# Altium footprint library PcbLib.PcbLib: 5 footprints
Each footprint in its own frame and in the unit in brackets; x right, y up, seen from the top. Pads: shape width x height; smd on the part's side, far side on the other; paste and mask are expansions set on the pad; w line width, h text height; cw(c..) or ccw(c..) is an arc to the next point about the centre after c.
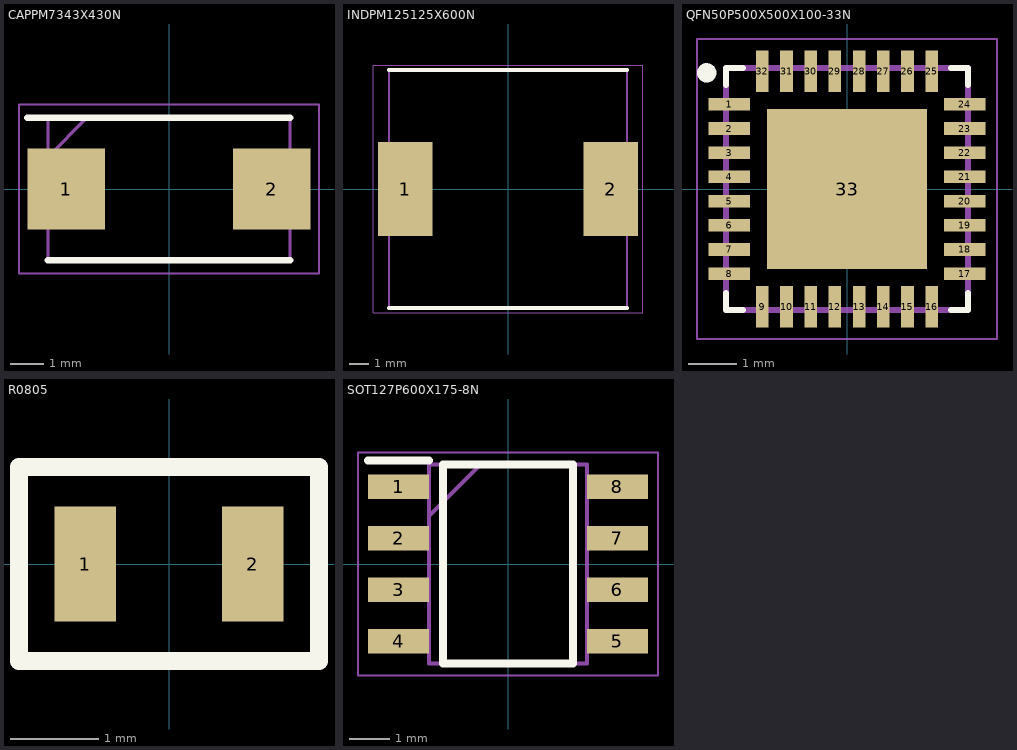
[diagram p0: the footprints below, top view; thin cyan lines are the x and y axes]

## CAPPM7343X430N [mm]
pads (2):
  rect 2.35x2.45 smd: 1(-3.1,0) 2(3.1,0)
Top Overlay:
  lines w0.2: -4.275,2.15 3.65,2.15 ; -3.65,-2.15 3.65,-2.15
Mechanical 13:
  lines w0.1: -3.65,0.975 -2.475,2.15 ; -3.65,-2.15 3.65,-2.15 3.65,2.15 -3.65,2.15 -3.65,-2.15
Mechanical 15:
  lines w0.05: -4.525,-2.55 4.525,-2.55 4.525,2.55 -4.525,2.55 -4.525,-2.55
3D body "T530X337M010ATE004.stp": height 4.3, standoff 0, extent -3.65,-2.15 3.65,2.15

## INDPM125125X600N [mm]
pads (2):
  rect 2.85x4.95 smd: 1(-5.4,0) 2(5.4,0)
Top Overlay:
  lines w0.2: -6.25,-6.25 6.25,-6.25 ; -6.25,6.25 6.25,6.25
Mechanical 13:
  lines w0.1: -6.25,-6.25 -6.25,6.25 6.25,6.25 6.25,-6.25 -6.25,-6.25
Mechanical 15:
  lines w0.05: -7.075,-6.5 -7.075,6.5 7.075,6.5 7.075,-6.5 -7.075,-6.5
3D body "DR125-3R3-R.stp": height 6, standoff 0, extent -6.25,-6.25 6.25,6.25

## QFN50P500X500X100-33N [mm]
pads (33):
  rect 0.86x0.26 smd mask+0.13: 1(-2.435,1.75) 2(-2.435,1.25) 3(-2.435,0.75) 4(-2.435,0.25) 5(-2.435,-0.25) 6(-2.435,-0.75) 7(-2.435,-1.25) 8(-2.435,-1.75) 17(2.435,-1.75) 18(2.435,-1.25) 19(2.435,-0.75) 20(2.435,-0.25) 21(2.435,0.25) 22(2.435,0.75) 23(2.435,1.25) 24(2.435,1.75)
  rect 0.26x0.86 smd mask+0.13: 9(-1.75,-2.435) 10(-1.25,-2.435) 11(-0.75,-2.435) 12(-0.25,-2.435) 13(0.25,-2.435) 14(0.75,-2.435) 15(1.25,-2.435) 16(1.75,-2.435) 25(1.75,2.435) 26(1.25,2.435) 27(0.75,2.435) 28(0.25,2.435) 29(-0.25,2.435) 30(-0.75,2.435) 31(-1.25,2.435) 32(-1.75,2.435)
  rect 3.3x3.3 smd mask+0.1: 33(0,0)
Top Overlay:
  circle w0.2: c-2.9,2.4 r0.1
  lines w0.127: -2.5,-2.15 -2.5,-2.5 -2.15,-2.5 ; -2.5,2.15 -2.5,2.5 -2.15,2.5 ; 2.15,-2.5 2.5,-2.5 2.5,-2.15 ; 2.15,2.5 2.5,2.5 2.5,2.15
Mechanical 13:
  lines w0.127: -2.5,-2.5 2.5,-2.5 ; -2.5,-2.5 -2.5,2.5 ; -2.5,-2.5 2.5,-2.5 ; -2.5,-2.5 -2.5,2.5 ; -2.5,2.5 2.5,2.5 ; -2.5,2.5 2.5,2.5 ; 2.5,-2.5 2.5,2.5 ; 2.5,-2.5 2.5,2.5
Mechanical 15:
  lines w0.05: -3.1,-3.1 3.1,-3.1 3.1,3.1 -3.1,3.1 -3.1,-3.1

## R0805 [mm]
pads (2):
  rect 0.7x1.3 smd: 1(-0.95,0) 2(0.95,0)
Top Overlay:
  lines w0.2: -1.7,-1.1 1.7,-1.1 1.7,1.1 -1.7,1.1 -1.7,-1.1
Mechanical 29:
  lines w0.2: -1.7,-1.1 1.7,-1.1 1.7,1.1 -1.7,1.1 -1.7,-1.1
  text "'.Designator'" at -1,-0.3 h0.7
3D body "User Library-CR2012-0805.step": height 0.61, standoff 0.01, extent -1,-0.625 1,0.625

## SOT127P600X175-8N [mm]
pads (8):
  rect 1.5x0.6 smd: 1(-2.7,1.905) 2(-2.7,0.635) 3(-2.7,-0.635) 4(-2.7,-1.905) 5(2.7,-1.905) 6(2.7,-0.635) 7(2.7,0.635) 8(2.7,1.905)
Top Overlay:
  lines w0.2: -3.45,2.555 -1.95,2.555 ; -1.6,-2.45 1.6,-2.45 1.6,2.45 -1.6,2.45 -1.6,-2.45
Mechanical 13:
  lines w0.1: -1.95,1.18 -0.68,2.45 ; -1.95,-2.45 1.95,-2.45 1.95,2.45 -1.95,2.45 -1.95,-2.45
Mechanical 15:
  lines w0.05: -3.7,-2.75 3.7,-2.75 3.7,2.75 -3.7,2.75 -3.7,-2.75
3D body "SI4178DY-T1-GE3.stp": height 1.75, standoff 0, extent -3,-2.45 3,2.45